# Altium schematic symbol library SCH - POWER - LINEAR VREG - TI LP3879MR-1.0.SchLib: 1 symbol
Pins are listed as number, name and electrical type; pins without a type are passive.

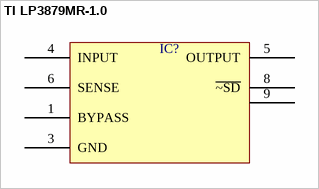
[diagram p0: symbol TI LP3879MR-1.0]

## TI LP3879MR-1.0
designator IC?  (value not drawn)
pins: 1 BYPASS, 3 GND, 4 INPUT, 5 OUTPUT, 6 SENSE, 8 ~{~SD}, 9